# Altium schematic symbol library PC817.SchLib: 1 symbol
Pins are listed as number, name and electrical type; pins without a type are passive.

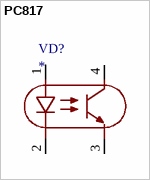
[diagram p0: symbol PC817]

## PC817
designator VD?
footprint DIP4
footprint SMT_Gullwing
pins: 1, 2, 3, 4